# Altium schematic symbol library LM317TG.SchLib: 1 symbol
Pins are listed as number, name and electrical type; pins without a type are passive.

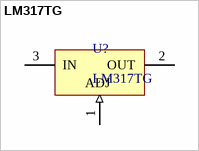
[diagram p0: symbol LM317TG]

## LM317TG
designator U?
footprint TO-220_Bended_Rad
pins: 1 ADJ (in), 2 OUT (power), 3 IN (power)